# Altium footprint library BKFD 6-PCB.PcbLib: 1 footprints
Each footprint in its own frame and in the unit in brackets; x right, y up, seen from the top. Pads: shape width x height; smd on the part's side, far side on the other; paste and mask are expansions set on the pad; w line width, h text height; cw(c..) or ccw(c..) is an arc to the next point about the centre after c.
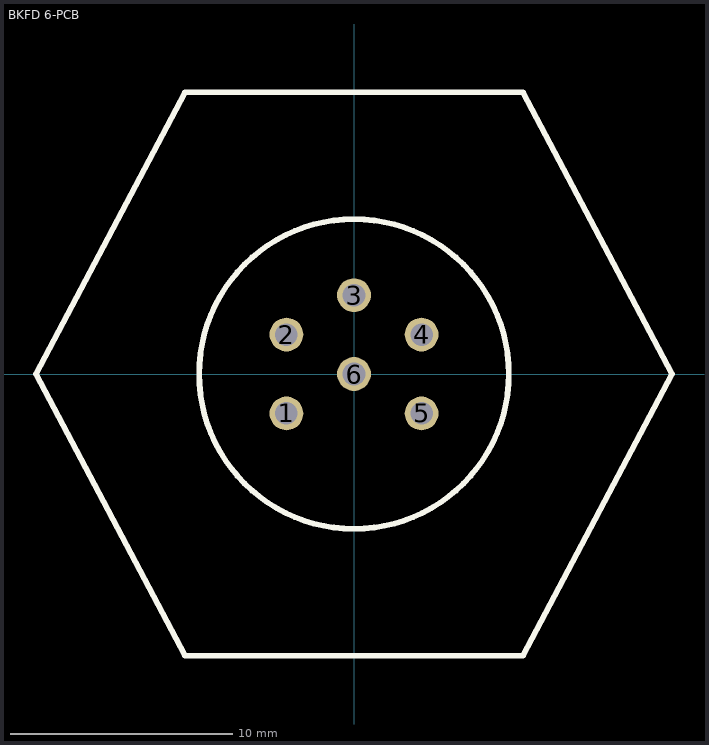
[diagram p0: the footprint, top view; thin cyan lines are the x and y axes]

## BKFD 6-PCB [mil]
pads (6):
  round 60 hole 40: 1(-120,-70) 2(-120,70) 3(0,140) 4(120,70) 5(120,-70) 6(0,0)
Top Overlay:
  circle w10: c0,0 r275
  lines w10: -565,0 -300,-500 300,-500 565,0 300,500 -300,500 -565,0